# Altium schematic symbol library SMD Crystals.SchLib: 27 symbols
Pins are listed as number, name and electrical type; pins without a type are passive.

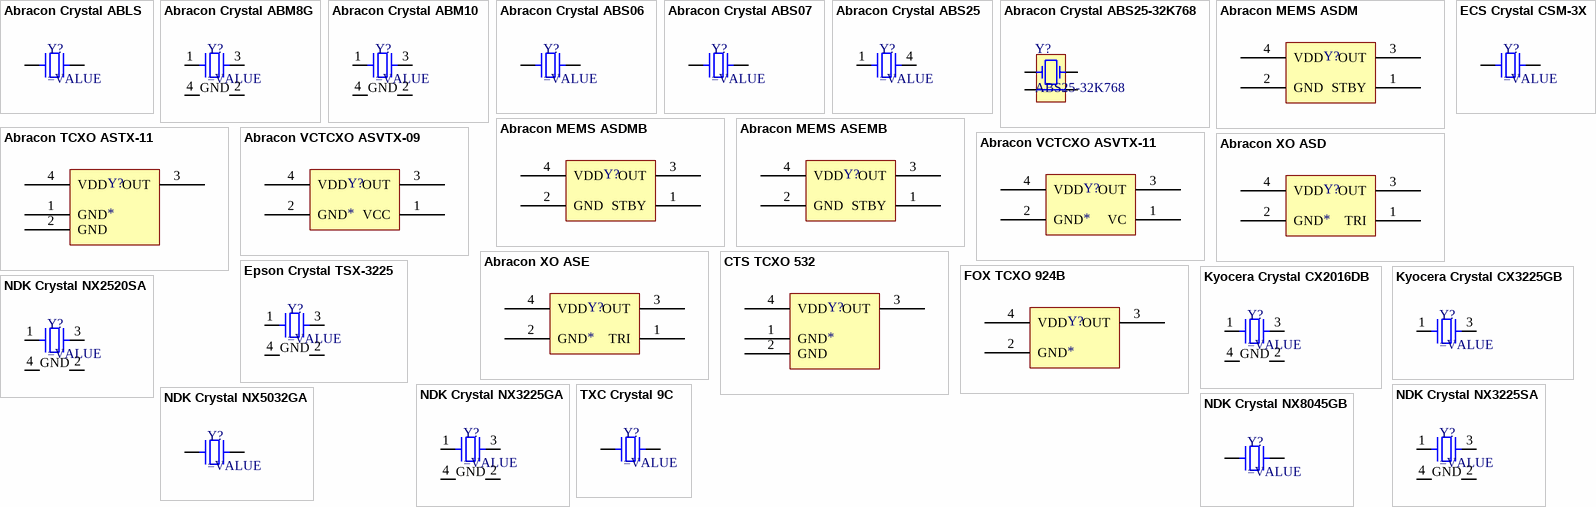
[diagram p0: symbols Abracon Crystal ABLS to TXC Crystal 9C]

## Abracon Crystal ABLS
designator Y?
SMT Crystal
footprint ABRACON ABLS (Crystal, 2-Leads, Body 4.70x11.40mm, Pitch 8.80mm, IPC Medium Density)
pins: 1, 2

## Abracon Crystal ABM8G
designator Y?
SMT Crystal
footprint ABRACON ABM8G (Crystal, 4-Leads, Body 2.50x3.20mm, Pitch 2.20mm, IPC Medium Density)
pins: 1, 2 GND, 3, 4 GND

## Abracon Crystal ABM10
designator Y?
SMT Crystal
footprint ABRACON ABM10 (Crystal, 4-Leads, Body 2.00x2.45mm, Pitch 1.65mm, IPC Medium Density)
pins: 1, 2 GND, 3, 4 GND

## Abracon Crystal ABS06
designator Y?
SMT Crystal
footprint ABRACON ABS06 (Crystal, 2-Leads, Body 1.20x2.00mm, Pitch 1.50mm, IPC Medium Density)
pins: 1, 2

## Abracon Crystal ABS07
designator Y?
SMT Crystal
footprint ABRACON ABS07 (Crystal, 2-Leads, Body 3.20x1.50mm, IPC Medium Density)
pins: 1, 2

## Abracon Crystal ABS25
designator Y?
SMT Crystal
footprint ABRACON ABS25
pins: 1, 4

## Abracon Crystal ABS25-32K768
designator Y?, comment ABS25-32K768
32.768kHz, 12.5pF Crystal, Abracon
footprint ABRACON ABS25
pins: 1 OSC1, 2, 3, 4 OSC2

## Abracon MEMS ASDM
designator Y?
Pure Silicon Clock Oscillator
footprint Abracon ASDM (MEMS Clock, 4-Leads, Body 2.00x2.50mm, Pitch 1.65mm, IPC Medium Density)
pins: 1 STBY, 2 GND, 3 OUT, 4 VDD

## Abracon MEMS ASDMB
designator Y?
Pure Silicon Clock Oscillator
footprint ABRACON ASDMB (MEMS Clock, 4-Leads, Body 2.00x2.45mm, Pitch 1.65mm, IPC Medium Density)
pins: 1 STBY, 2 GND, 3 OUT, 4 VDD

## Abracon MEMS ASEMB
designator Y?
Pure Silicon Clock Oscillator
footprint ABRACON ASEMB (MEMS Clock, 4-Leads, Body 2.50x3.20mm, Pitch 2.10mm, IPC Medium Density)
pins: 1 STBY, 2 GND, 3 OUT, 4 VDD

## Abracon TCXO ASTX-11
designator Y?
SMD CMOS Crystal Oscillator
footprint Abracon ASTX-11 (Crystal, 4-Leads, Body 2.50x3.20mm, Pitch 2.38mm, IPC Medium Density)
pins: 1 GND, 2 GND, 3 OUT, 4 VDD

## Abracon VCTCXO ASVTX-09
designator Y?
SMD CMOS Crystal Oscillator
footprint Abracon ASVTX-09 (XO, 4-Leads, Body 5.00x3.20mm, Pitch 3.70mm, IPC Medium Density)
pins: 1 VCC, 2 GND, 3 OUT, 4 VDD

## Abracon VCTCXO ASVTX-11
designator Y?
SMD CMOS Crystal Oscillator
footprint Abracon ASVTX-11 (Crystal, 4-Leads, Body 2.50x3.20mm, Pitch 2.38mm, IPC Medium Density)
pins: 1 VC, 2 GND, 3 OUT, 4 VDD

## Abracon XO ASD
designator Y?
SMD CMOS Crystal Oscillator
footprint ABRACON ASD (Crystal, 4-Leads, Body 2.00x2.45mm, Pitch 1.65mm, IPC Medium Density)
pins: 1 TRI, 2 GND, 3 OUT, 4 VDD

## Abracon XO ASE
designator Y?
SMD CMOS Crystal Oscillator
footprint ABRACON ASE (Crystal, 4-Leads, Body 2.50x3.20mm, Pitch 2.20mm, IPC Medium Density)
pins: 1 TRI, 2 GND, 3 OUT, 4 VDD

## CTS TCXO 532
designator Y?
SMD TCXO
footprint CTS Model 532 (XO, 4-Leads, Body 5.00x3.20mm, Pitch 3.70mm, IPC Medium Density)
pins: 1 GND, 2 GND, 3 OUT, 4 VDD

## ECS Crystal CSM-3X
designator Y?
SMT Crystal
footprint ECS CSM-3X (Crystal, 2-Leads, Body 4.10x7.00mm, Pitch 5.00mm, IPC Medium Density)
pins: 1, 2

## Epson Crystal TSX-3225
designator Y?
SMT Crystal
footprint EPSON TSX-3225 (Crystal, 4-Leads, Body 2.50x3.20mm, Pitch 2.20mm, IPC Medium Density)
pins: 1, 2 GND, 3, 4 GND

## FOX TCXO 924B
designator Y?
SMD TCXO
footprint FOX 924 (XO, 4-Leads, Body 5.00x3.20mm, Pitch 3.70mm, IPC Medium Density)
pins: 2 GND, 3 OUT, 4 VDD

## Kyocera Crystal CX2016DB
designator Y?
SMT Crystal
footprint KYOCERA CX2016DB (Crystal, 4-Leads, Body 1.60x2.00mm, Pitch 1.40mm, IPC Medium Density)
pins: 1, 2 GND, 3, 4 GND

## Kyocera Crystal CX3225GB
designator Y?
SMT Crystal
footprint Kyocera CX3225GB (Crystal, 4-Leads, Body 2.50x3.20mm, Pitch 2.20mm, IPC Medium Density)
pins: 1, 3

## NDK Crystal NX2520SA
designator Y?
SMT Crystal
footprint NDK NX2520SA (Crystal, 4-Leads, Body 2.00x2.50mm, Pitch 1.70mm, IPC Medium Density)
pins: 1, 2 GND, 3, 4 GND

## NDK Crystal NX3225GA
designator Y?
SMT Crystal
footprint NDK NX3225GA (Crystal, 4-Leads, Body 2.50x3.20mm, Pitch 2.20mm, IPC Medium Density)
pins: 1, 2 GND, 3, 4 GND

## NDK Crystal NX3225SA
designator Y?
SMT Crystal
footprint NDK NX3225SA (Crystal, 4-Leads, Body 2.50x3.20mm, Pitch 2.20mm, IPC Medium Density)
pins: 1, 2 GND, 3, 4 GND

## NDK Crystal NX5032GA
designator Y?
SMT Crystal
footprint NDK NX5032GA (Crystal, 2-Leads, Body 5.00x3.20mm, IPC Medium Density)
pins: 1, 2

## NDK Crystal NX8045GB
designator Y?
SMT Crystal
footprint NDK NX8045GB (Crystal, 2-Leads, Body 4.50x8.00mm, Pitch 6.50mm, IPC Medium Density)
pins: 1, 2

## TXC Crystal 9C
designator Y?
SMT Crystal
footprint TXC 9C (Crystal, 2-Leads, Body 4.70x11.40mm, Pitch 8.80mm, IPC Medium Density)
pins: 1, 2